# Altium footprint library WL-SBCC.PcbLib: 1 footprints
Each footprint in its own frame and in the unit in brackets; x right, y up, seen from the top. Pads: shape width x height; smd on the part's side, far side on the other; paste and mask are expansions set on the pad; w line width, h text height; cw(c..) or ccw(c..) is an arc to the next point about the centre after c.
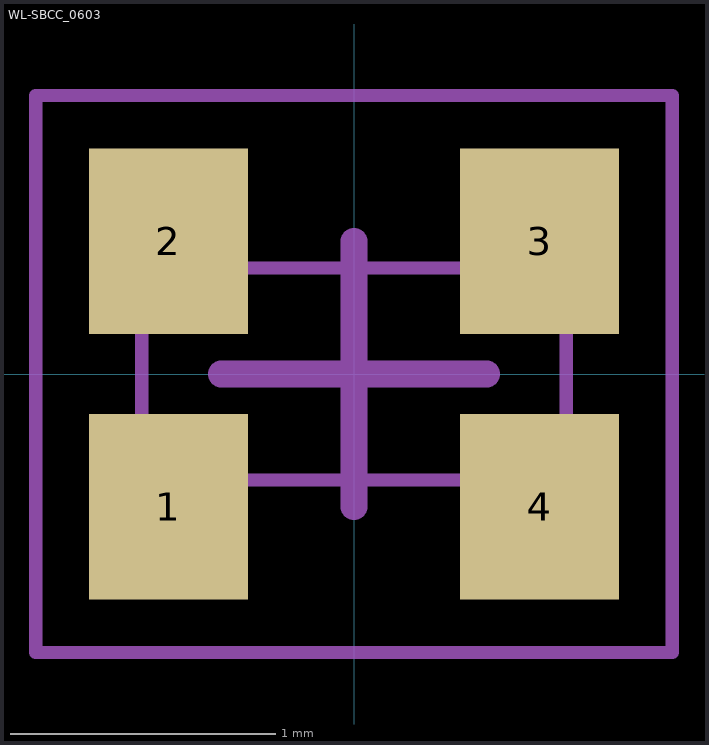
[diagram p0: the footprint, top view; thin cyan lines are the x and y axes]

## WL-SBCC_0603 [mm] "SMT Bi-color Chip LED Compact, body 1.6x0.8mm"
height 0.6
pads (4):
  rect 0.6x0.7 smd: 1(-0.7,-0.5) 2(-0.7,0.5) 3(0.7,0.5) 4(0.7,-0.5)
Top Assembly:
  lines w0.05: -0.8,-0.4 -0.8,0.4 0.8,0.4 0.8,-0.4 -0.8,-0.4
Top Designator:
  text ".Designator" at -3.647,-0.357 h1
Top Courtyard:
  lines w0.05: -1.2,-1.05 1.2,-1.05 1.2,1.05 -1.2,1.05 -1.2,-1.05
Top Component Center:
  lines w0.1: -0.5,0 0.5,0 ; 0,-0.5 0,0.5
3D body "150060xx75240.stp": height 0.4, standoff 0, extent -0.8,-0.4 0.8,0.4